# EAGLE library part 649010221732 (library Wire_to_Board_Connectors_rev15d)
WR-MPC4 4.20mm Male Dual Row Vertical Header with Mounting Pegs, 10 Pins=>Code : Con_WTB_MPC4_2_PCB_649010221732 <http://katalog.we-online.de/media/thumbs2/eican/thb_Con_WTB_MPC4_2_PCB_6490xx221732_pf2.jpg> Details see: http://katalog.we-online.de/en/em/649_0xx_221_732 Created 2014-06-06, Karrer Zheng 2014 (C) Würth Elektronik
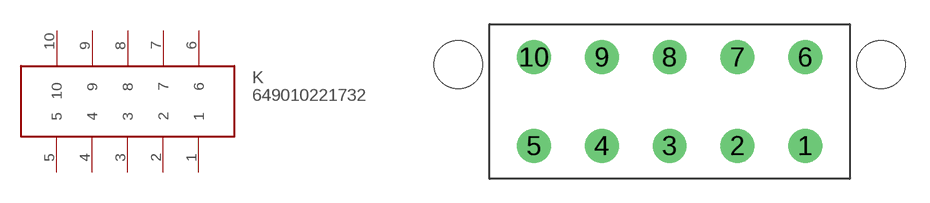
[diagram p287: symbol with the pads of 649010221732; footprint 649010221732]

Designator prefix K

## 649010221732  [649010221732]
1  1
2  2
3  3
4  4
5  5
6  6
7  7
8  8
9  9
10  10

## Footprint 649010221732 (pad centres in mm)
WR-MPC4 4.20mm Male Dual Row Vertical Header with Mounting Pegs, 10 Pins
drill 1.4: 1 8.4,-2.75; 2 4.2,-2.75; 3 0,-2.75; 4 -4.2,-2.75; 5 -8.4,-2.75; 6 8.4,2.75; 7 4.2,2.75; 8 0,2.75; 9 -4.2,2.75; 10 -8.4,2.75
hole 3 at -13.1,2.29
hole 3 at 13.1,2.29